# Altium footprint library 20230209_PIFProject_LibPCB_dongkhoa_v1-01.PcbLib: 7 footprints
Each footprint in its own frame and in the unit in brackets; x right, y up, seen from the top. Pads: shape width x height; smd on the part's side, far side on the other; paste and mask are expansions set on the pad; w line width, h text height; cw(c..) or ccw(c..) is an arc to the next point about the centre after c.
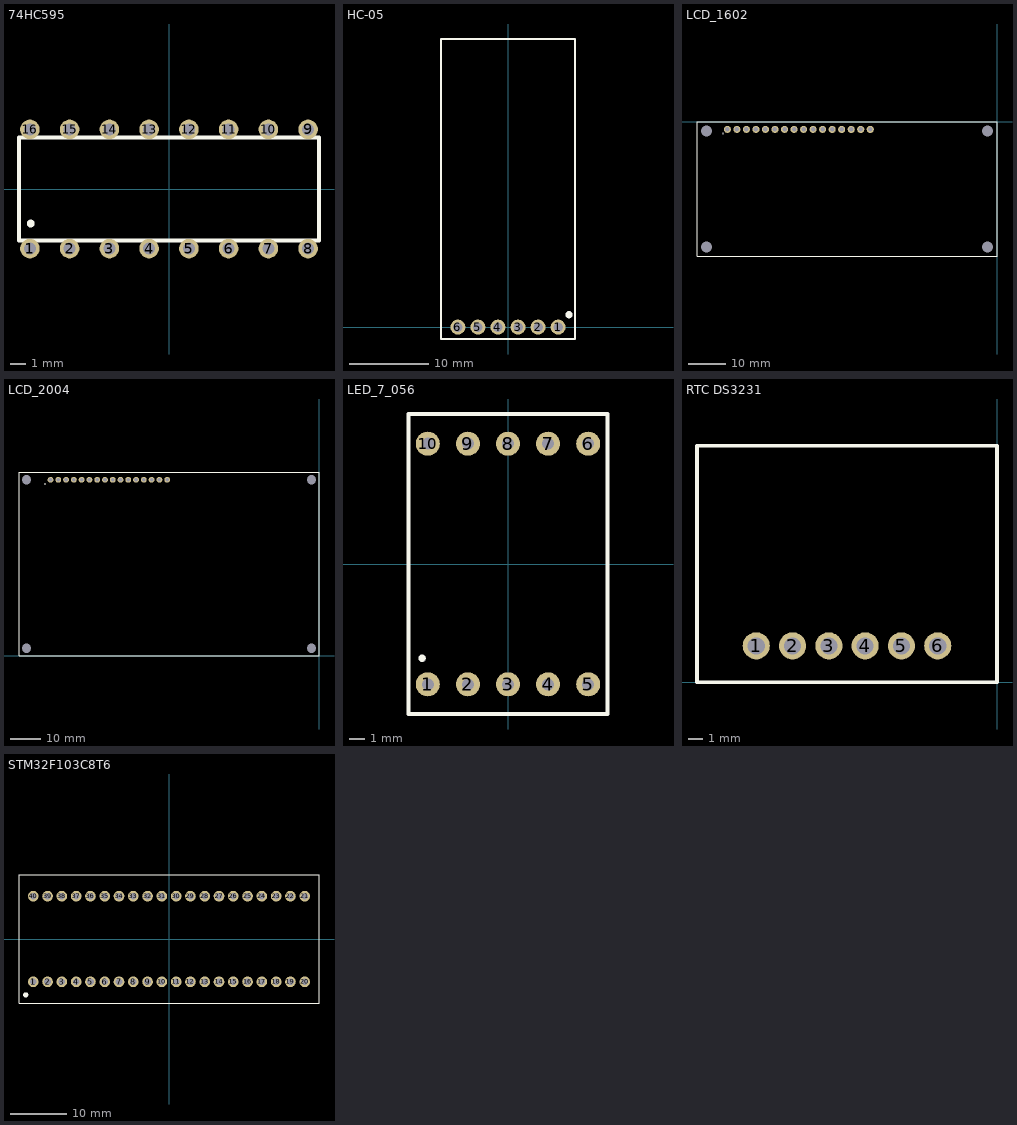
[diagram p0: the footprints below, top view; thin cyan lines are the x and y axes]

## 74HC595 [mm]
pads (16):
  round 1.25 hole 0.762: 1(-8.89,-3.81) 2(-6.35,-3.81) 3(-3.81,-3.81) 4(-1.27,-3.81) 5(1.27,-3.81) 6(3.81,-3.81) 7(6.35,-3.81) 8(8.89,-3.81) 9(8.89,3.81) 10(6.35,3.81) 11(3.81,3.81) 12(1.27,3.81) 13(-1.27,3.81) 14(-3.81,3.81) 15(-6.35,3.81) 16(-8.89,3.81)
Top Overlay:
  circle w0.3: c-8.839,-2.21 r0.1
  lines w0.254: -9.588,-3.302 -9.588,3.302 9.588,3.302 9.588,-3.302 -9.588,-3.302
3D body "74hc595.stp": height 2.54, standoff -3.06, extent -9.588,-3.75 9.411,3.75

## HC-05 [mm] "HC-05"
pads (6):
  round 1.9 hole 1.2 mask+0.102: 1(6.35,0) 2(3.81,0) 3(1.27,0) 4(-1.27,0) 5(-3.81,0) 6(-6.35,0)
Top Overlay:
  circle w0.5: c7.722,1.575 r0.2
  lines w0.254: -8.5,-1.5 8.5,-1.5 8.5,36.5 -8.5,36.5 -8.5,-1.5
3D body "HC-SERIES.stp": height 4.85, standoff -6.58, extent -7.926,-1.245 7.774,36.355

## LCD_1602 [mm]
pads (20):
  round 1.9 hole 1.2: 1(-71.9,-2.1) 2(-69.36,-2.1) 3(-66.82,-2.1) 4(-64.28,-2.1) 5(-61.74,-2.1) 6(-59.2,-2.1) 7(-56.66,-2.1) 8(-54.12,-2.1) 9(-51.58,-2.1) 10(-49.04,-2.1) 11(-46.5,-2.1) 12(-43.96,-2.1) 13(-41.42,-2.1) 14(-38.88,-2.1) 15(-36.34,-2.1) 16(-33.8,-2.1)
  round 1.524 hole 3: ""(-77.5,-33.5) ""(-77.5,-2.5) ""(-2.5,-33.5) ""(-2.5,-2.5)
Top Overlay:
  circle w0.254: c-73.09,-3.2 r0.1
  lines w0.254: -80,-36 -80,0 0,0 0,-36 -80,-36
3D body "LCD_16X2.STEP": height 10.94, standoff -5.96, extent -80.03,-35.611 -0.03,0.189

## LCD_2004 [mm]
pads (20):
  round 1.9 hole 1.2: 1(-87.7,57.5) 2(-85.16,57.5) 3(-82.62,57.5) 4(-80.08,57.5) 5(-77.54,57.5) 6(-75,57.5) 7(-72.46,57.5) 8(-69.92,57.5) 9(-67.38,57.5) 10(-64.84,57.5) 11(-62.3,57.5) 12(-59.76,57.5) 13(-57.22,57.5) 14(-54.68,57.5) 15(-52.14,57.5) 16(-49.6,57.5)
  round 1.524 hole 3: ""(-95.5,2.5) ""(-95.5,57.5) ""(-2.5,2.5) ""(-2.5,57.5)
Top Overlay:
  circle w0.254: c-89.535,56.159 r0.1
  lines w0.2: -98,0 -98,60 0,60 0,0 -98,0
3D body "LCD Display 2004.stp": height 13.78, standoff 0.13, extent -98.069,0.056 0,60

## LED_7_056 [mil]
pads (10):
  round 60 hole 30: 1(-200,-300) 2(-100,-300) 3(0,-300) 4(100,-300) 5(200,-300) 6(200,300) 7(100,300) 8(0,300) 9(-100,300) 10(-200,300)
Top Overlay:
  circle w10: c-214,-235 r3.94
  lines w10: -248.03,-374.02 -248.03,374.02 248.03,374.02 248.03,-374.02 -248.03,-374.02

## RTC DS3231 [mm] "Module RTC DS3231"
pads (6):
  round 1.9 hole 1.2: 1(-16.85,2.54) 2(-14.31,2.54) 3(-11.77,2.54) 4(-9.23,2.54) 5(-6.69,2.54) 6(-4.15,2.54)
Top Overlay:
  lines w0.254: -21,0 -21,16.54 0,16.54 0,0 -21,0
3D body "DS3231 RTC.step": height 44.3, standoff -0.45, extent -21.916,2.193 0.884,15.723

## STM32F103C8T6 [mm] "N/A"
pads (41):
  round 1.9 hole 1.2: 1(-24.13,-7.62) 1(-24.13,-7.62) 2(-21.59,-7.62) 3(-19.05,-7.62) 4(-16.51,-7.62) 5(-13.97,-7.62) 6(-11.43,-7.62) 7(-8.89,-7.62) 8(-6.35,-7.62) 9(-3.81,-7.62) 10(-1.27,-7.62) 11(1.27,-7.62) 12(3.81,-7.62) 13(6.35,-7.62) 14(8.89,-7.62) 15(11.43,-7.62) 16(13.97,-7.62) 17(16.51,-7.62) 18(19.05,-7.62) 19(21.59,-7.62) 20(24.13,-7.62) 21(24.13,7.62) 22(21.59,7.62) 23(19.05,7.62) 24(16.51,7.62) 25(13.97,7.62) 26(11.43,7.62) 27(8.89,7.62) 28(6.35,7.62) 29(3.81,7.62) 30(1.27,7.62) 31(-1.27,7.62) 32(-3.81,7.62) 33(-6.35,7.62) 34(-8.89,7.62) 35(-11.43,7.62) 36(-13.97,7.62) 37(-16.51,7.62) 38(-19.05,7.62) 39(-21.59,7.62) 40(-24.13,7.62)
Top Overlay:
  circle w0.508: c-25.476,-9.931 r0.205
  lines w0.2: -26.67,-11.43 26.67,-11.43 26.67,11.43 -26.67,11.43 -26.67,-11.43
3D body "STM32F103C8T6_Blue_Pill v6.step": height 12.31, standoff -5.96, extent -30.126,-11.405 27.434,11.455